# EAGLE library part FH65 (library Pod3 Lib)
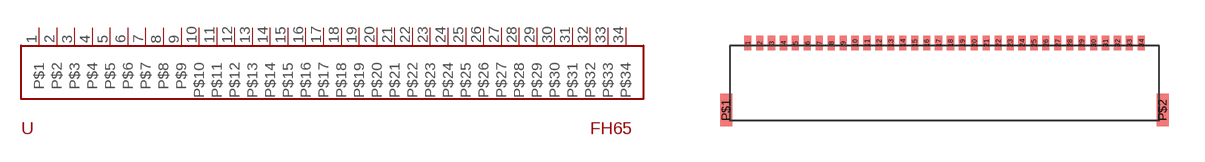
[diagram p6: symbol with the pads of FH65; footprint FH65]

Designator prefix -

## FH65  [FH65]
1  P$1
2  P$2
3  P$3
4  P$4
5  P$5
6  P$6
7  P$7
8  P$8
9  P$9
10  P$10
11  P$11
12  P$12
13  P$13
14  P$14
15  P$15
16  P$16
17  P$17
18  P$18
19  P$19
20  P$20
21  P$21
22  P$22
23  P$23
24  P$24
25  P$25
26  P$26
27  P$27
28  P$28
29  P$29
30  P$30
31  P$31
32  P$32
33  P$33
34  P$34

## Footprint FH65 (pad centres in mm)
smd 0.3 x 0.6: 1 -8.25,1.778; 2 -7.75,1.778; 3 -7.25,1.778; 4 -6.75,1.778; 5 -6.25,1.778; 6 -5.75,1.778; 7 -5.25,1.778; 8 -4.75,1.778; 9 -4.25,1.778; 10 -3.75,1.778; 11 -3.25,1.778; 12 -2.75,1.778; 13 -2.25,1.778; 14 -1.75,1.778; 15 -1.25,1.778; 16 -0.75,1.778; 17 -0.25,1.778; 18 0.25,1.778; 19 0.75,1.778; 20 1.25,1.778; 21 1.75,1.778; 22 2.25,1.778; 23 2.75,1.778; 24 3.25,1.778; 25 3.75,1.778; 26 4.25,1.778; 27 4.75,1.778; 28 5.25,1.778; 29 5.75,1.778; 30 6.25,1.778; 31 6.75,1.778; 32 7.25,1.778; 33 7.75,1.778; 34 8.25,1.778
smd 0.5 x 1.35: P$1 -9.15,-1.037; P$2 9.15,-1.037